# Altium footprint library Transistors_Relays.PcbLib: 9 footprints
Each footprint in its own frame and in the unit in brackets; x right, y up, seen from the top. Pads: shape width x height; smd on the part's side, far side on the other; paste and mask are expansions set on the pad; w line width, h text height; cw(c..) or ccw(c..) is an arc to the next point about the centre after c.
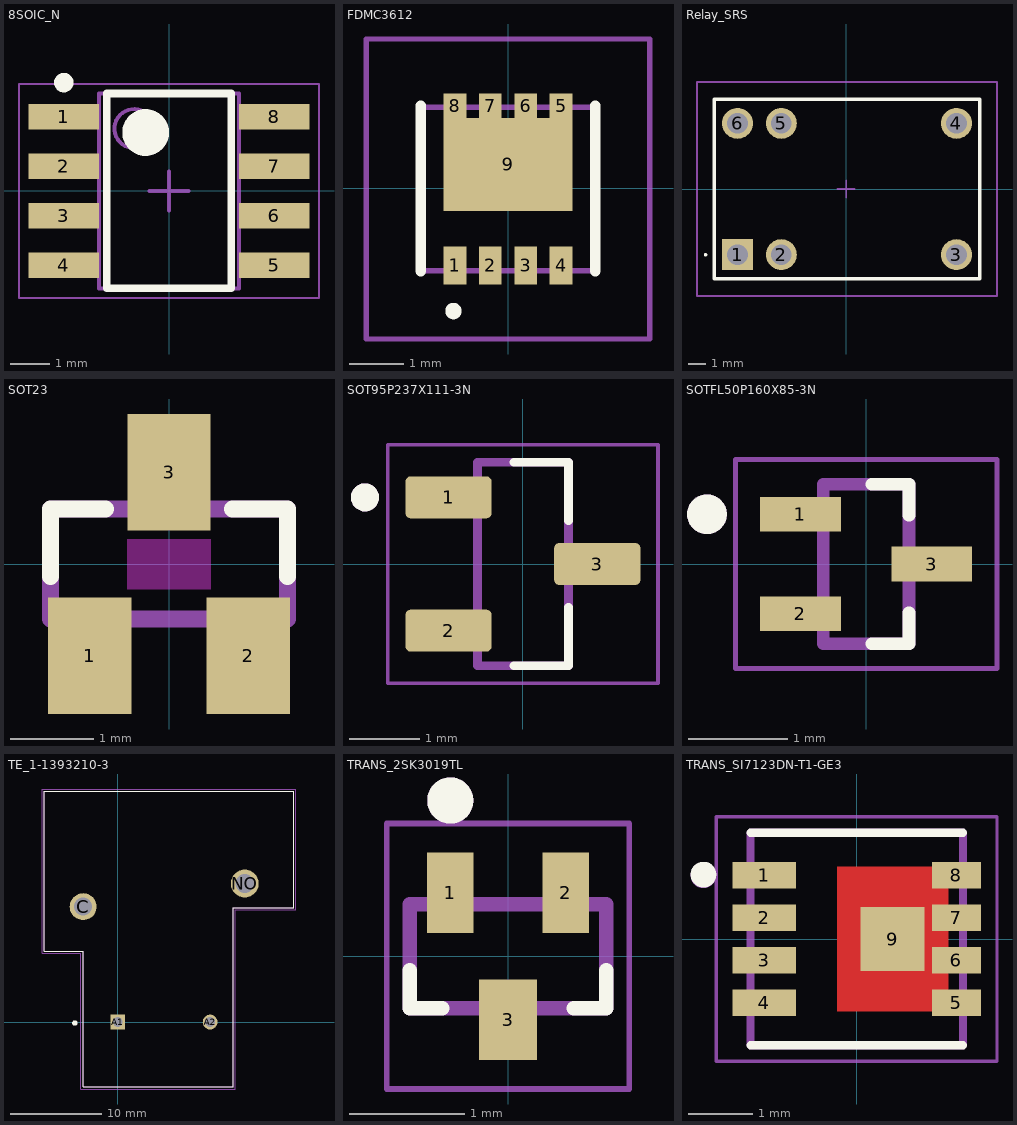
[diagram p0: the footprints below, top view; thin cyan lines are the x and y axes]

## 8SOIC_N [mm] "SOIC, 8-Leads, Body 4,90x3,90mm, Pitch 1,27mm, IPC Medium Density"
height 1.75
pads (8):
  rect 1.8x0.65 smd: 1(-2.7,1.905) 2(-2.7,0.635) 3(-2.7,-0.635) 4(-2.7,-1.905) 5(2.7,-1.905) 6(2.7,-0.635) 7(2.7,0.635) 8(2.7,1.905)
Top Overlay:
  circle w0.6: c-0.6,1.5 r0.3
  circle w0.25: c-2.7,2.78 r0.125
  lines w0.2: -1.6,-2.5 1.6,-2.5 1.6,2.5 -1.6,2.5 -1.6,-2.5
Mechanical 13:
  circle w0.1: c-0.9,1.6 r0.5
  lines w0.1: -1.8,-2.5 1.8,-2.5 1.8,2.5 -1.8,2.5 -1.8,-2.5
Mechanical 15:
  lines w0.05: -3.85,-2.75 3.85,-2.75 3.85,2.75 -3.85,2.75 -3.85,-2.75
  lines w0.1: -0.5,0 0.5,0 ; 0,-0.5 0,0.5
3D body: height 1.75, standoff 0.01, extent -2,-2.5 2,2.5

## FDMC3612 [mm]
pads (9):
  rect 0.42x0.7 smd: 1(-0.975,-1.412) 2(-0.325,-1.412) 3(0.325,-1.412) 4(0.975,-1.412)
  rect 0.42x0.45 smd: 5(0.975,1.513) 6(0.325,1.513) 7(-0.325,1.513) 8(-0.975,1.513)
  rect 2.37x1.7 smd: 9(0,0.438)
Top Overlay:
  lines w0.2: -1.6,-1.512 -1.6,1.513 ; 1.6,-1.512 1.6,1.513 ; -1,-2.3 ccw(c-1,-2.25) -1,-2.2 ccw(c-1,-2.25) -1,-2.3
Mechanical 13:
  lines w0.1: -1.6,-1.512 -1.6,1.487 1.6,1.487 1.6,-1.512 -1.6,-1.512
Mechanical 15:
  lines w0.1: -2.6,-2.762 -2.6,2.737 2.6,2.737 2.6,-2.762 -2.6,-2.762
3D body "FDMC3612.stp": height 0.9, standoff 0, extent -1.6,-1.72 1.6,1.696

## Relay_SRS [mm]
pads (6):
  rect 1.8x1.8 hole 1.2: 1(-6.304,-3.81)
  round 1.8 hole 1.2: 2(-3.764,-3.81) 3(6.396,-3.81) 4(6.396,3.81) 5(-3.764,3.81) 6(-6.304,3.81)
Top Overlay:
  lines w0.1: -8.204,-3.81 ccw(c-8.154,-3.81) -8.104,-3.81 ccw(c-8.154,-3.81) -8.204,-3.81
  lines w0.2: -7.654,-5.2 -7.654,5.2 7.746,5.2 7.746,-5.2 -7.654,-5.2
Mechanical 13:
  lines w0.1: -7.654,-5.2 -7.654,5.2 7.746,5.2 7.746,-5.2 -7.654,-5.2
Mechanical 15:
  lines w0.1: -0.5,0 0.5,0 ; 0,-0.5 0,0.5 ; -8.654,-6.2 -8.654,6.2 8.746,6.2 8.746,-6.2 -8.654,-6.2
3D body "SRS-03VDC-SH.stp": height 11.7, standoff -5, extent -7.654,-5.2 7.746,5.2

## SOT23 [mm]
pads (3):
  rect 1x1.4 smd: 1(-0.95,-1.1) 2(0.95,-1.1) 3(0,1.1)
Top Overlay:
  lines w0.203: -1.422,-0.152 -1.422,0.66 -0.764,0.66 ; 0.764,0.66 1.422,0.66 1.422,-0.152
Keep-Out Layer:
  region: 0.5,-0.3 -0.5,-0.3 -0.5,0.3 0.5,0.3
Mechanical 13:
  region: -0.711,-1.3 -1.172,-1.3 -1.172,-0.711 -0.711,-0.711
  region: 1.168,-1.299 0.713,-1.299 0.713,-0.711 1.168,-0.711
  region: 0.229,0.713 -0.229,0.713 -0.229,1.295 0.229,1.295
  lines w0.203: -1.422,-0.66 -1.422,0.66 1.422,0.66 1.422,-0.66 -1.422,-0.66
3D body "step_temp.STEP": height 1.12, standoff 0, extent -1.185,-1.46 1.185,1.46

## SOT95P237X111-3N [mm]
height 1.11
pads (3):
  rrect25% 1.23x0.6 smd paste+0 mask+0.102: 1(-1.06,0.95) 2(-1.06,-0.95) 3(1.06,0)
Top Overlay:
  circle w0.2: c-2.25,0.95 r0.1
  lines w0.127: -0.125,-1.45 0.65,-1.45 0.65,-0.62 ; -0.125,1.45 0.65,1.45 0.65,0.62
Mechanical 13:
  circle w0.2: c-2.25,0.95 r0.1
  lines w0.127: -0.65,-1.45 0.65,-1.45 0.65,1.45 -0.65,1.45 -0.65,-1.45
Mechanical 15:
  lines w0.05: -1.925,-1.7 1.925,-1.7 1.925,1.7 -1.925,1.7 -1.925,-1.7
3D body "step_temp.STEP": height 1.11, standoff 0, extent -1.2,-1.45 1.2,1.45

## SOTFL50P160X85-3N [mm]
height 0.85
pads (3):
  rect 0.81x0.35 smd: 1(-0.66,0.5) 2(-0.66,-0.5) 3(0.66,0)
Top Overlay:
  circle w0.2: c-1.6,0.5 r0.1
  lines w0.127: 0.058,-0.8 0.43,-0.8 0.43,-0.489 ; 0.058,0.8 0.43,0.8 0.43,0.489
Mechanical 13:
  circle w0.2: c-1.6,0.5 r0.1
  lines w0.127: -0.43,-0.8 -0.43,0.8 0.43,0.8 0.43,-0.8 -0.43,-0.8
Mechanical 15:
  lines w0.05: -1.315,-1.05 -1.315,1.05 1.315,1.05 1.315,-1.05 -1.315,-1.05
3D body "step_temp.STEP": height 0.85, standoff 0, extent -0.8,-0.8 0.8,0.8

## TE_1-1393210-3 [mm]
pads (4):
  rect 1.635x1.635 / inner round 1.635 / far side rect 1.635x1.635 hole 1.09: A1(0,0)
  round 1.635 hole 1.09: A2(10.16,0)
  round 2.97 hole 1.98: C(-3.81,12.7)
  round 3.076 hole 2.06: NO(13.97,15.24)
Top Overlay:
  circle w0.3: c-4.72,-0.1 r0.15
  lines w0.127: -8.08,7.8 -3.81,7.8 -3.81,-7.11 12.7,-7.11 12.7,12.6 19.35,12.6 19.35,25.4 -8.08,25.4 -8.08,7.8
Mechanical 13:
  lines w0.127: -8.08,7.8 -3.81,7.8 -3.81,-7.11 12.7,-7.11 12.7,12.6 19.35,12.6 19.35,25.4 -8.08,25.4 -8.08,7.8
Mechanical 15:
  lines w0.05: -8.33,7.55 -8.33,25.65 19.6,25.65 19.6,12.35 12.95,12.35 12.95,-7.36 -4.06,-7.36 -4.06,7.55 -8.33,7.55
3D body "step_temp.STEP": height 20.4, standoff -3.71, extent -8.001,-7.111 19.431,25.399

## TRANS_2SK3019TL [mm]
pads (3):
  rect 0.4x0.7 smd: 1(-0.5,0.55) 2(0.5,0.55)
  rect 0.5x0.7 smd: 3(0,-0.55)
Top Overlay:
  circle w0.2: c-0.5,1.35 r0.1
  lines w0.127: -0.85,-0.12 -0.85,-0.45 -0.57,-0.45 ; 0.57,-0.45 0.85,-0.45 0.85,-0.12
Mechanical 13:
  circle w0.2: c-0.5,1.35 r0.1
  lines w0.127: -0.85,-0.45 0.85,-0.45 0.85,0.45 -0.85,0.45 -0.85,-0.45
Mechanical 15:
  lines w0.05: -1.05,-1.15 -1.05,1.15 1.05,1.15 1.05,-1.15 -1.05,-1.15
3D body "step_temp.STEP": height 0.8, standoff 0, extent -0.8,-0.8 0.8,0.8

## TRANS_SI7123DN-T1-GE3 [mm]
pads (9):
  rect 0.99x0.405 smd: 1(-1.435,0.99) 2(-1.435,0.33) 3(-1.435,-0.33) 4(-1.435,-0.99)
  rect 0.76x0.405 smd: 5(1.55,-0.99) 6(1.55,-0.33) 7(1.55,0.33) 8(1.55,0.99)
  rect 1x1 smd: 9(0.557,0)
Top Layer:
  region: -0.305,1.12 1.71,1.12 1.71,0.835 1.42,0.835 1.42,0.51 1.84,0.51 1.84,0.22 1.42,0.22 1.42,-0.185 1.825,-0.185 1.825,-0.435 1.42,-0.435 1.42,-0.895 1.81,-0.895 1.81,-1.155 1.18,-1.155 1.18,-1.12 -0.305,-1.12
Top Overlay:
  circle w0.2: c-2.38,1 r0.1
  lines w0.127: -1.65,-1.65 1.65,-1.65 ; -1.65,1.65 1.65,1.65
Top Paste:
  region: 0.012,0.707 1.102,0.707 1.102,-0.707 0.012,-0.707
Top Solder:
  region: -0.37,1.2 1.48,1.2 1.48,-1.205 -0.37,-1.205
Mechanical 4:
  circle w0.2: c-2.38,0.99 r0.1
  circle w0.2: c-2.38,0.99 r0.1
  lines w0.127: -1.65,-1.65 -1.65,1.65 ; -1.65,-1.65 1.65,-1.65 ; -1.65,-1.65 -1.65,1.65 ; -1.65,-1.65 1.65,-1.65 ; -1.65,1.65 1.65,1.65 ; -1.65,1.65 1.65,1.65 ; 1.65,-1.65 1.65,1.65 ; 1.65,-1.65 1.65,1.65
Mechanical 16:
  lines w0.05: -2.18,-1.9 -2.18,1.9 2.18,1.9 2.18,-1.9 -2.18,-1.9
3D body "SI7123DN-T1-GE3.STEP": height 1.12, standoff 0, extent -1.651,-1.651 1.651,1.651